# Altium footprint library HDRV30W64P254_2X15_4826X910X910P.PcbLib: 1 footprints
Each footprint in its own frame and in the unit in brackets; x right, y up, seen from the top. Pads: shape width x height; smd on the part's side, far side on the other; paste and mask are expansions set on the pad; w line width, h text height; cw(c..) or ccw(c..) is an arc to the next point about the centre after c.
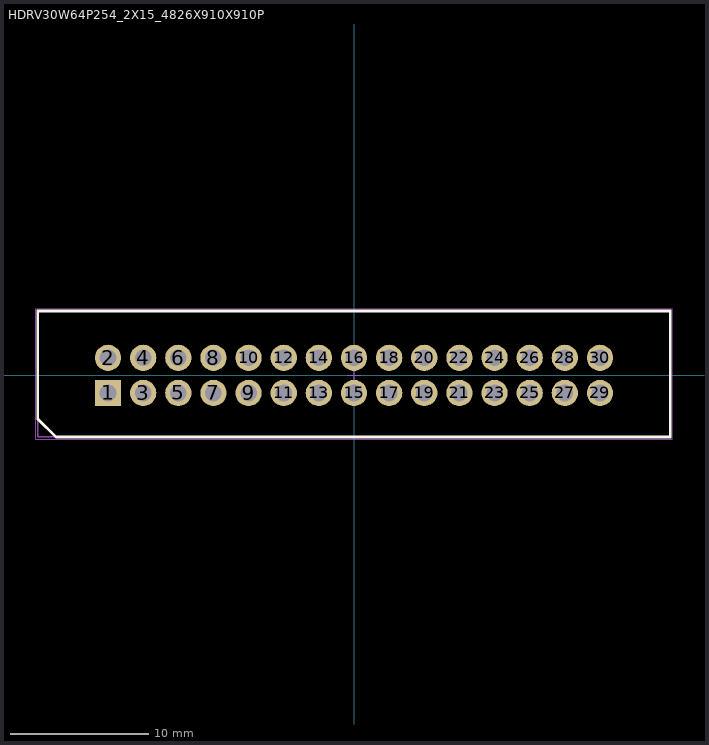
[diagram p0: the footprint, top view; thin cyan lines are the x and y axes]

## HDRV30W64P254_2X15_4826X910X910P [mm]
pads (30):
  rect 1.9x1.9 hole 1.2 unplated: 1(-17.78,-1.27)
  round 1.9 hole 1.2 unplated: 2(-17.78,1.27) 3(-15.24,-1.27) 4(-15.24,1.27) 5(-12.7,-1.27) 6(-12.7,1.27) 7(-10.16,-1.27) 8(-10.16,1.27) 9(-7.62,-1.27) 10(-7.62,1.27) 11(-5.08,-1.27) 12(-5.08,1.27) 13(-2.54,-1.27) 14(-2.54,1.27) 15(0,-1.27) 16(0,1.27) 17(2.54,-1.27) 18(2.54,1.27) 19(5.08,-1.27) 20(5.08,1.27) 21(7.62,-1.27) 22(7.62,1.27) 23(10.16,-1.27) 24(10.16,1.27) 25(12.7,-1.27) 26(12.7,1.27) 27(15.24,-1.27) 28(15.24,1.27) 29(17.78,-1.27) 30(17.78,1.27)
Top Overlay:
  lines w0.2: -22.86,-3.14 -21.55,-4.45 22.86,-4.45 22.86,4.65 -22.86,4.65 -22.86,2.375 -22.86,-3.14
Mechanical 13:
  lines w0.1: -22.86,-4.45 -22.86,4.65 22.86,4.65 22.86,-4.45 -22.86,-4.45
Mechanical 15:
  lines w0.05: -0.5,0 0.5,0 ; 0,-0.5 0,0.5 ; -23,-4.6 23,-4.6 23,4.8 -23,4.8 -23,-4.6
3D body "User Library-BH_30_V.STEP": height 8.9, standoff -3.2, extent -22.86,-4.45 22.86,4.65